# EAGLE library part 23LCV_SERIAL_RAM (library jason_eagle6)
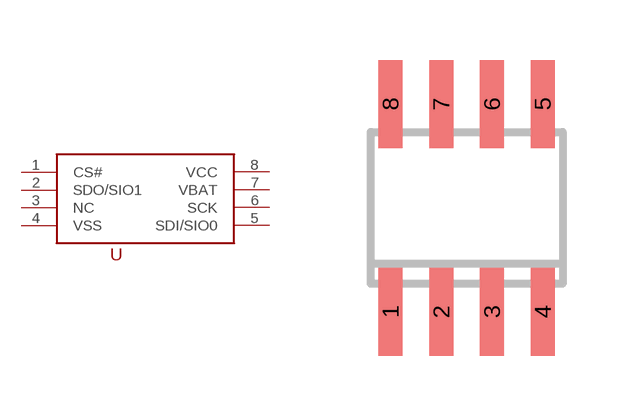
[diagram p50: symbol with the pads of SO08; footprint SO08]

Designator prefix -

## 23LCV_SERIAL_RAM  [SO08]
1  CS#
2  SDO/SIO1
3  NC  nc
4  VSS  pwr
5  SDI/SIO0
6  SCK
7  VBAT  pwr
8  VCC  pwr

## Footprint SO08 (pad centres in mm)
Small Outline Package 8 NS Package M08A
smd 0.6 x 2.2: 1 -1.905,-2.6; 2 -0.635,-2.6; 3 0.635,-2.6; 4 1.905,-2.6; 5 1.905,2.6; 6 0.635,2.6; 7 -0.635,2.6; 8 -1.905,2.6